# Altium schematic symbol library Schematics.SchLib: 1 symbol
Pins are listed as number, name and electrical type; pins without a type are passive.

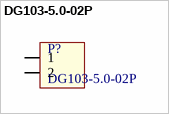
[diagram p0: symbol DG103-5.0-02P]

## DG103-5.0-02P
designator P?
60 degree screw terminal
footprint DG103-5.0-02P (60 degree screw terminal)
pins: 1, 2